# Altium footprint library PCB - CAPACITOR - ALUMINIUM - CAP AL 10.3MM.PCBLIB: 1 footprints
Each footprint in its own frame and in the unit in brackets; x right, y up, seen from the top. Pads: shape width x height; smd on the part's side, far side on the other; paste and mask are expansions set on the pad; w line width, h text height; cw(c..) or ccw(c..) is an arc to the next point about the centre after c.
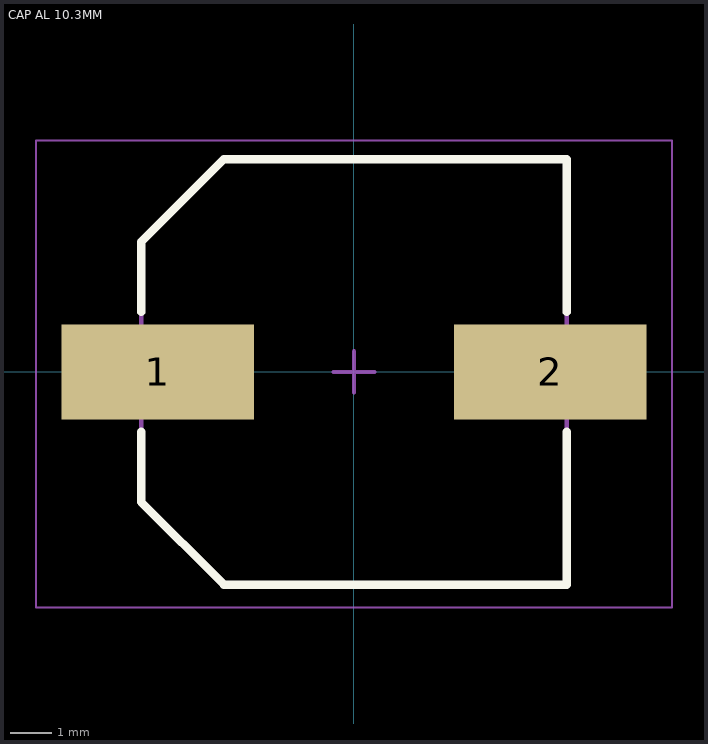
[diagram p0: the footprint, top view; thin cyan lines are the x and y axes]

## CAP AL 10.3MM [mm] "Aluminum Electrolytic Capacitor, Body 10.30x10.30x10.50mm, IPC Low Density"
height 10.5
pads (2):
  rect 4.65x2.3 smd: 1(-4.75,0) 2(4.75,0)
Top Overlay:
  lines w0.2: -5.15,-1.45 -5.15,-3.15 -3.15,-5.15 5.15,-5.15 5.15,-1.45 ; -5.15,1.45 -5.15,3.15 -3.15,5.15 5.15,5.15 5.15,1.45
Mechanical 13:
  lines w0.1: -5.15,-3.15 -3.15,-5.15 5.15,-5.15 5.15,5.15 -3.15,5.15 -5.15,3.15 -5.15,-3.15
Mechanical 15:
  lines w0.05: -7.7,-5.7 -7.7,5.6 7.7,5.6 7.7,-5.7 -7.7,-5.7
  lines w0.1: -0.5,0 0.5,0 ; 0,-0.5 0,0.5
3D body: height 10.5, standoff 0, extent -5.8,-5.15 5.8,5.15